# EAGLE library part TELIT_JN3 (library Parts)
Device for Telit JN3 GPS module
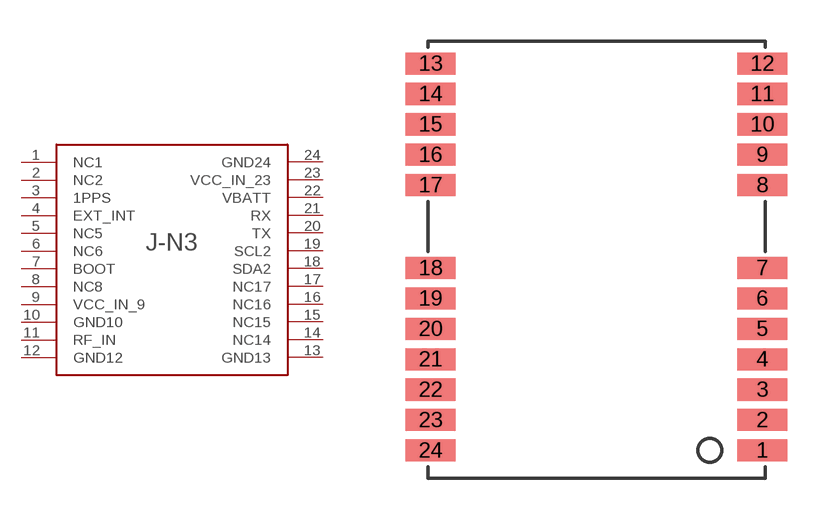
[diagram p0: symbol with the pads of 24-SMD; footprint 24-SMD]

Designator prefix -

## TELIT_JN3  [24-SMD]
1  NC1
2  NC2
3  1PPS
4  EXT_INT
5  NC5
6  NC6
7  BOOT
8  NC8
9  VCC_IN_9
10  GND10
11  RF_IN
12  GND12
13  GND13
14  NC14
15  NC15
16  NC16
17  NC17
18  SDA2
19  SCL2
20  TX
21  RX
22  VBATT
23  VCC_IN_23
24  GND24

## Footprint 24-SMD (pad centres in mm)
smd 1.8 x 0.8: 1 12.9,-14.4; 2 12.9,-13.3; 3 12.9,-12.2; 4 12.9,-11.1; 5 12.9,-10; 6 12.9,-8.9; 7 12.9,-7.8; 8 12.9,-4.8; 9 12.9,-3.7; 10 12.9,-2.6; 11 12.9,-1.5; 12 12.9,-0.4; 13 0.9,-0.4; 14 0.9,-1.5; 15 0.9,-2.6; 16 0.9,-3.7; 17 0.9,-4.8; 18 0.9,-7.8; 19 0.9,-8.9; 20 0.9,-10; 21 0.9,-11.1; 22 0.9,-12.2; 23 0.9,-13.3; 24 0.9,-14.4